# Altium schematic symbol library PALib.SchLib: 23 symbols
Pins are listed as number, name and electrical type; pins without a type are passive.

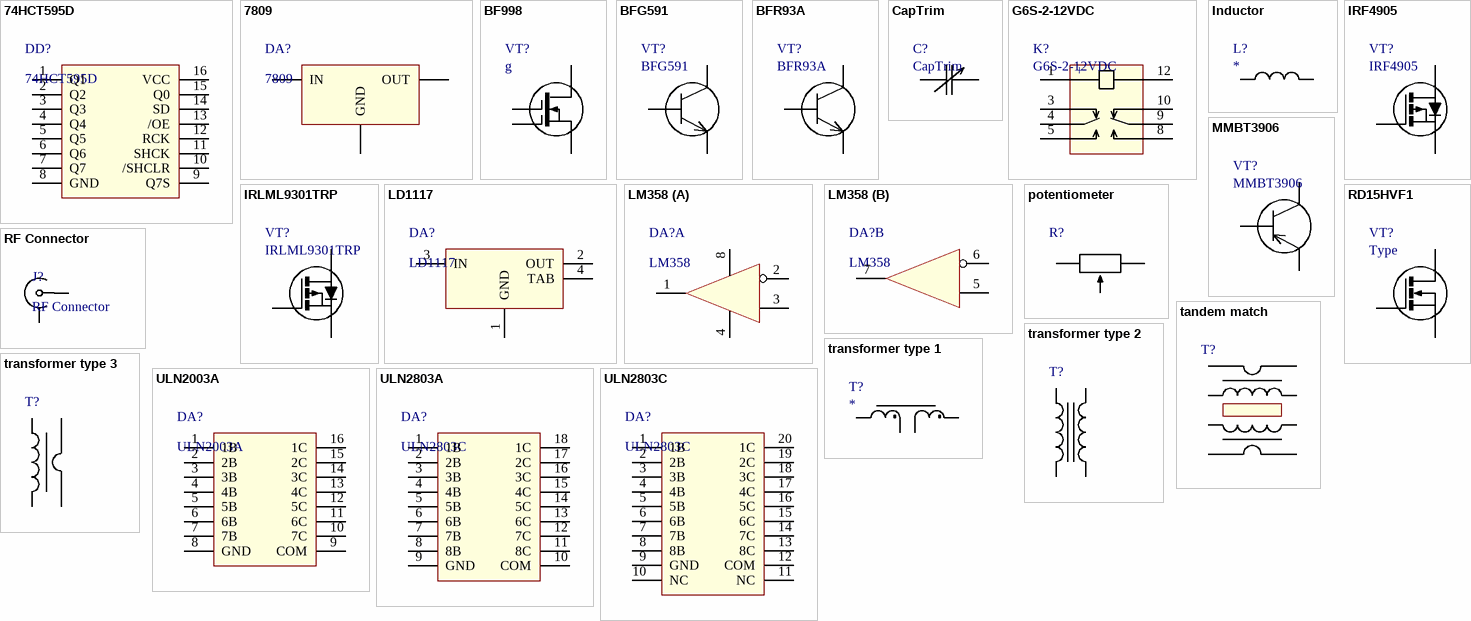
[diagram p0: symbols 74HCT595D to ULN2803C]

## 74HCT595D
designator DD?
8-bit serial-in, serial or parallel-out shift register with output / latches; 3-state
footprint SOIC127P600X175-16N (SOIC 16, Pitch 1.27mm - Body 4x10mm, IPC Medium Density)
pins: 1 Q1, 2 Q2, 3 Q3, 4 Q4, 5 Q5, 6 Q6, 7 Q7, 8 GND, 9 Q7S, 10 /SHCLR, 11 SHCK, 12 RCK, 13 /OE, 14 SD, 15 Q0, 16 VCC

## 7809
designator DA?
Positive voltage regulator ICs
footprint TO-220-v (TO-220 3-Terminal - Vertical Mount)
pins: 1 IN, 2 GND, 3 OUT

## BF998
designator VT?, comment g
pins: 1 1G, 2 2G, 3 D, 3 S

## BFG591
designator VT?
NPN 7 GHz wideband transistor
footprint SOT230P700X180-4N (SOT223, 2.30mm pitch; 3 pin, 3.70mm W X 6.70mm L, IPC Medium Density)
pins: 1 E, 2 B, 3 E, 4 C

## BFR93A
designator VT?
NPN 6 GHz wideband transistor
footprint SOT95P229X119-3N (SOT23 3-Leads, 0.95mm pitch; 3 pin, 1.296mm W X 2.858mm L X 1.194mm H body, IPC Medium Density)
pins: 1 B, 2 E, 3 C

## CapTrim
designator C?
pins: 1, 2

## G6S-2-12VDC
designator K?
Compact, Industry-Standard 2-pole relay
footprint G6S-2 (Compact, Industry-Standard 2-pole relay,  designed to switch 2A Signal Loads)
pins: 1, 3, 4, 5, 8, 9, 10, 12
text: +

## Inductor
designator L?
Inductor
pins: 1, 2

## IRF4905
designator VT?
HEXFET® Power MOSFET
footprint TO-220-H (TO-220 3-Terminal + Tab - Horizontal Mount)
footprint TO-220-HFLIP (TO-220 3-Terminal + Tab - Flipped Horizontal Mount)
footprint TO-220-v (TO-220 3-Terminal - Vertical Mount)
pins: 1 G, 2 D, 3 S

## IRLML9301TRP
designator VT?
footprint SOT95P229X119-3N (SOT23 3-Leads, 0.95mm pitch; 3 pin, 1.296mm W X 2.858mm L X 1.194mm H body, IPC Medium Density)
pins: 1 G, 2 S, 3 D

## LD1117
designator DA?
Adjustable and fixed low drop positive voltage regulator
footprint SOT230P700X180-4N (SOT223, 2.30mm pitch; 3 pin, 3.70mm W X 6.70mm L, IPC Medium Density)
pins: 1 GND, 2 OUT, 3 IN, 4 TAB

## LM358
designator DA?
Single Supply Dual / Operational Amplifiers
footprint SOIC127P600X175-8N (SOIC 8, Pitch 1.27mm - Body 4x5mm, IPC Medium Density)
part A pins: 1 OUT1, 2 IN1-, 3 IN1+, 4 GND, 8 VCC
part B pins: 5 IN2+, 6 IN2-, 7 OUT2

## MMBT3906
designator VT?
PNP General Purpose Amplifier
footprint SOT95P229X119-3N (SOT23 3-Leads, 0.95mm pitch; 3 pin, 1.296mm W X 2.858mm L X 1.194mm H body, IPC Medium Density)
pins: 1 B, 2 E, 3 C

## potentiometer
designator R?  (value not drawn)
footprint 3296W (Square Trimming Potentiometer)
pins: 1, 2, 3

## RD15HVF1
designator VT?, comment Type
footprint TO-220-H (TO-220 3-Terminal + Tab - Horizontal Mount)
footprint TO-220-HFLIP (TO-220 3-Terminal + Tab - Flipped Horizontal Mount)
footprint TO-220-v (TO-220 3-Terminal - Vertical Mount)
pins: 1 G, 2 S, 3 D

## RF Connector
designator J?
footprint SMA001 (SMA Connector Series)
footprint SMA002 (SMA Connector Series)
footprint BNC-TYCO_1-1337542-0 (50 Ohms  BNC Elbow PCB Socket With Mounting Posts)
pins: 1 RF, 2 GND

## tandem match
designator T?  (value not drawn)
transformer
footprint TANDEM
pins: 1, 2, 3, 4, 5, 6, 7, 8

## transformer type 1
designator T?
transformer
footprint R10x6x4; pin to pad 1>4 2>3 3>2 4>1
footprint R12.5x7.5x5
pins: 1, 2, 3, 4

## transformer type 2
designator T?  (value not drawn)
transformer
footprint R10x6x4
footprint R22x14x6
pins: 1, 2, 3, 4

## transformer type 3
designator T?  (value not drawn)
transformer
pins: 1, 1, 2, 2

## ULN2003A
designator DA?
High Voltage, High Current / Darlington Transistor Arrays
footprint SOIC127P600X175-16N (SOIC 16, Pitch 1.27mm - Body 4x10mm, IPC Medium Density)
pins: 1 1B, 2 2B, 3 3B, 4 4B, 5 5B, 6 6B, 7 7B, 8 GND, 9 COM, 10 7C, 11 6C, 12 5C, 13 4C, 14 3C, 15 2C, 16 1C

## ULN2803A
designator DA?, comment ULN2803C
Darlington Transistor Array
footprint SOIC127P1030X265-18N (SOIC, 18-Leads, Body 13.9x7.6mm (max), Pitch 1.27mm, IPC Medium Density)
pins: 1 1B, 2 2B, 3 3B, 4 4B, 5 5B, 6 6B, 7 7B, 8 8B, 9 GND, 10 COM, 11 8C, 12 7C, 13 6C, 14 5C, 15 4C, 16 3C, 17 2C, 18 1C

## ULN2803C
designator DA?
Darlington Transistor Array
footprint SOIC127P1030X265-20N (SOIC 20, Pitch 1.27mm - Body 7.5x12.8mm, IPC Medium Density)
pins: 1 1B, 2 2B, 3 3B, 4 4B, 5 5B, 6 6B, 7 7B, 8 8B, 9 GND, 10 NC, 11 NC, 12 COM, 13 8C, 14 7C, 15 6C, 16 5C, 17 4C, 18 3C, 19 2C, 20 1C